# Altium integrated library footprints.IntLib: 27 symbols
Pins are listed as number, name and electrical type; pins without a type are passive.

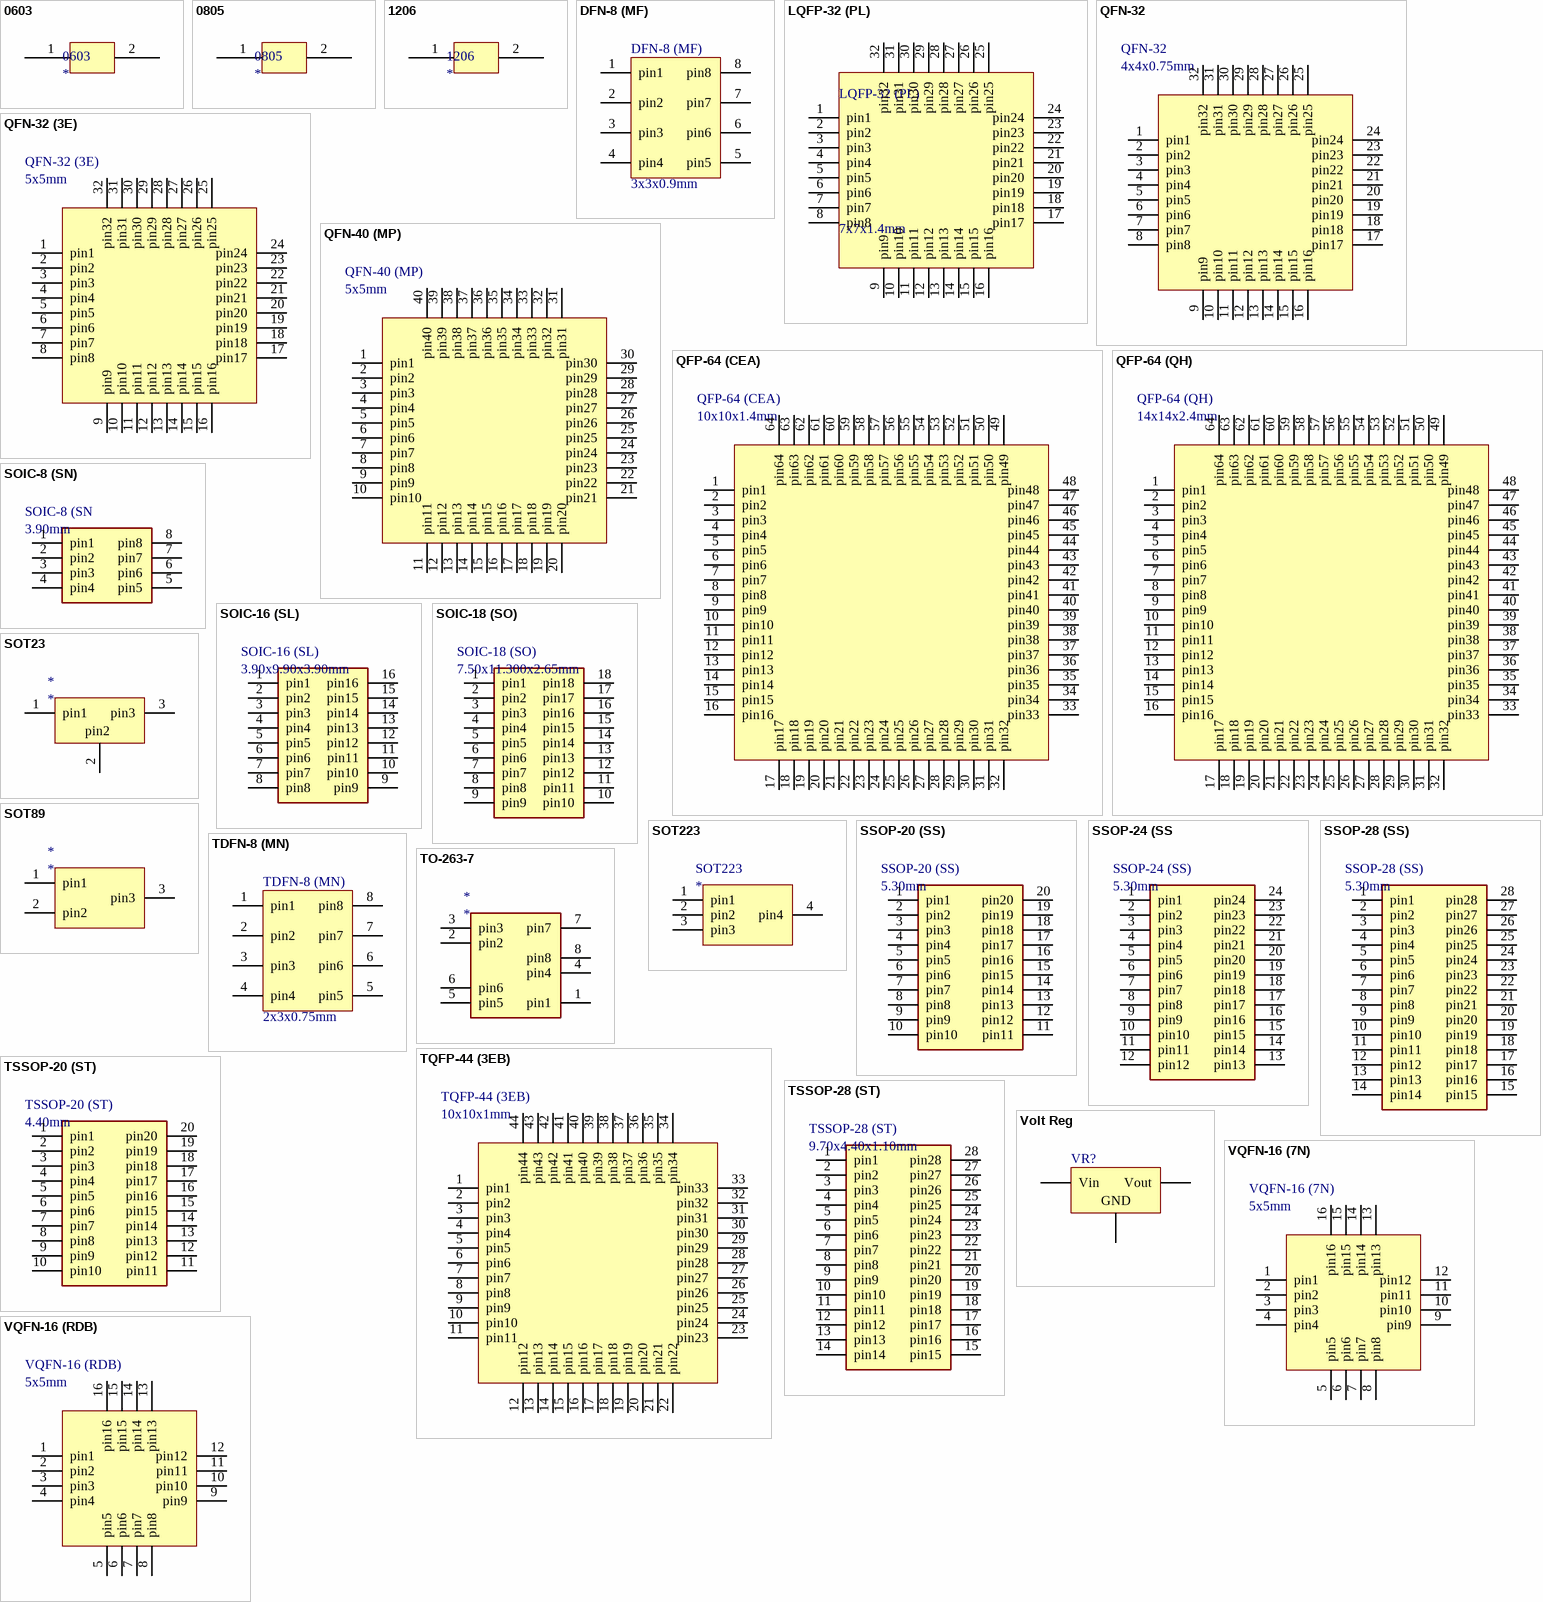
[diagram p0: symbols 0603 to VQFN-16 (RDB)]

## 0603
designator 0603
0603, 1608mm
footprint cap0603 (Chip Capacitor, Body 1.6x0.8mm, IPC High Density)
pins: 1, 2

## 0805
designator 0805
0805 , 2012mm
footprint CAP0805 (Chip Capacitor, Body 2.0x1.3mm, IPC High Density)
footprint RES0805
pins: 1, 2

## 1206
designator 1206
1206, 3216mm
footprint RES1206
footprint C1206 (Chip Capacitor, Body 3.2x1.6mm, IPC High Density)
pins: 1, 2

## DFN-8 (MF)
designator DFN-8 (MF), comment 3x3x0.9mm
8-Lead Plastic Dual Flat No Lead Package
footprint DFN-8 (MF) (8-Lead Plastic Dual Flat No Lead Package 3x3x0.9mm)
pins: 1 pin1, 2 pin2, 3 pin3, 4 pin4, 5 pin5, 6 pin6, 7 pin7, 8 pin8

## LQFP-32 (PL)
designator LQFP-32 (PL), comment 7x7x1.4mm
32-Lead Low Profile Plastic Quad Flatpack
footprint LQFP-32 (PL) (32-Lead Low Profile Plastic Quad Flatpack 7x7x1.4mm)
pins: 1 pin1, 2 pin2, 3 pin3, 4 pin4, 5 pin5, 6 pin6, 7 pin7, 8 pin8, 9 pin9, 10 pin10, 11 pin11, 12 pin12, 13 pin13, 14 pin14, 15 pin15, 16 pin16, 17 pin17, 18 pin18, 19 pin19, 20 pin20, 21 pin21, 22 pin22, 23 pin23, 24 pin24, 25 pin25, 26 pin26, 27 pin27, 28 pin28, 29 pin29, 30 pin30, 31 pin31, 32 pin32

## QFN-32
designator QFN-32, comment 4x4x0.75mm
32 Lead Thin Quad Flat No-Lead Plastic Package
footprint QFN-32 (32 Lead Thin Quad Flat No-Lead Plastic Package)
pins: 1 pin1, 2 pin2, 3 pin3, 4 pin4, 5 pin5, 6 pin6, 7 pin7, 8 pin8, 9 pin9, 10 pin10, 11 pin11, 12 pin12, 13 pin13, 14 pin14, 15 pin15, 16 pin16, 17 pin17, 18 pin18, 19 pin19, 20 pin20, 21 pin21, 22 pin22, 23 pin23, 24 pin24, 25 pin25, 26 pin26, 27 pin27, 28 pin28, 29 pin29, 30 pin30, 31 pin31, 32 pin32

## QFN-32 (3E)
designator QFN-32 (3E), comment 5x5mm
32-Lead Quad Flat, No Lead Package, 0.4mm Terminalas with 3.3x3.3 EP, Punch Singulated, Dimpled Terminals
footprint QFN-32 (3e) (32-Lead Quad Flat No Lead with 7.15x7.15 EP Punch Dimpled)
pins: 1 pin1, 2 pin2, 3 pin3, 4 pin4, 5 pin5, 6 pin6, 7 pin7, 8 pin8, 9 pin9, 10 pin10, 11 pin11, 12 pin12, 13 pin13, 14 pin14, 15 pin15, 16 pin16, 17 pin17, 18 pin18, 19 pin19, 20 pin20, 21 pin21, 22 pin22, 23 pin23, 24 pin24, 25 pin25, 26 pin26, 27 pin27, 28 pin28, 29 pin29, 30 pin30, 31 pin31, 32 pin32

## QFN-40 (MP)
designator QFN-40 (MP), comment 5x5mm
40 Lead Thin Quad Flat, No Lead Plastic Package, 3.5x3.5mm EP
footprint QFN-40 (MP) (40 Lead Thin Quad Flat, No Lead Plastic Package, 3.5x3.5mm EP)
pins: 1 pin1, 2 pin2, 3 pin3, 4 pin4, 5 pin5, 6 pin6, 7 pin7, 8 pin8, 9 pin9, 10 pin10, 11 pin11, 12 pin12, 13 pin13, 14 pin14, 15 pin15, 16 pin16, 17 pin17, 18 pin18, 19 pin19, 20 pin20, 21 pin21, 22 pin22, 23 pin23, 24 pin24, 25 pin25, 26 pin26, 27 pin27, 28 pin28, 29 pin29, 30 pin30, 31 pin31, 32 pin32, 33 pin33, 34 pin34, 35 pin35, 36 pin36, 37 pin37, 38 pin38, 39 pin39, 40 pin40

## QFP-64 (CEA)
designator QFP-64 (CEA), comment 10x10x1.4mm
64-Lead Low Profile Plastic Quad Flat Pack
footprint QFP-64 (CEA) (64-Lead Low Profile Plastic Quad Flat Pack)
pins: 1 pin1, 2 pin2, 3 pin3, 4 pin4, 5 pin5, 6 pin6, 7 pin7, 8 pin8, 9 pin9, 10 pin10, 11 pin11, 12 pin12, 13 pin13, 14 pin14, 15 pin15, 16 pin16, 17 pin17, 18 pin18, 19 pin19, 20 pin20, 21 pin21, 22 pin22, 23 pin23, 24 pin24, 25 pin25, 26 pin26, 27 pin27, 28 pin28, 29 pin29, 30 pin30, 31 pin31, 32 pin32, 33 pin33, 34 pin34, 35 pin35, 36 pin36, 37 pin37, 38 pin38, 39 pin39, 40 pin40, 41 pin41, 42 pin42, 43 pin43, 44 pin44, 45 pin45, 46 pin46, 47 pin47, 48 pin48, 49 pin49, 50 pin50, 51 pin51, 52 pin52, 53 pin53, 54 pin54, 55 pin55, 56 pin56, 57 pin57, 58 pin58, 59 pin59, 60 pin60, 61 pin61, 62 pin62, 63 pin63, 64 pin64

## QFP-64 (QH)
designator QFP-64 (QH), comment 14x14x2.4mm
footprint QFP-64 (QH)
pins: 1 pin1, 2 pin2, 3 pin3, 4 pin4, 5 pin5, 6 pin6, 7 pin7, 8 pin8, 9 pin9, 10 pin10, 11 pin11, 12 pin12, 13 pin13, 14 pin14, 15 pin15, 16 pin16, 17 pin17, 18 pin18, 19 pin19, 20 pin20, 21 pin21, 22 pin22, 23 pin23, 24 pin24, 25 pin25, 26 pin26, 27 pin27, 28 pin28, 29 pin29, 30 pin30, 31 pin31, 32 pin32, 33 pin33, 34 pin34, 35 pin35, 36 pin36, 37 pin37, 38 pin38, 39 pin39, 40 pin40, 41 pin41, 42 pin42, 43 pin43, 44 pin44, 45 pin45, 46 pin46, 47 pin47, 48 pin48, 49 pin49, 50 pin50, 51 pin51, 52 pin52, 53 pin53, 54 pin54, 55 pin55, 56 pin56, 57 pin57, 58 pin58, 59 pin59, 60 pin60, 61 pin61, 62 pin62, 63 pin63, 64 pin64

## SOIC-8 (SN)
designator SOIC-8 (SN, comment 3.90mm
8-Lead
footprint SOIC-8 (SN) (8-Lead 3.90Mm)
pins: 1 pin1, 2 pin2, 3 pin3, 4 pin4, 5 pin5, 6 pin6, 7 pin7, 8 pin8

## SOIC-16 (SL)
designator SOIC-16 (SL), comment 3.90x9.90x3.90mm
16-Lead Plastic Small Outline
footprint SOIC-16 (SL) (16-Lead Plastic Small Outline 3.90mm)
pins: 1 pin1, 2 pin2, 3 pin3, 4 pin4, 5 pin5, 6 pin6, 7 pin7, 8 pin8, 9 pin9, 10 pin10, 11 pin11, 12 pin12, 13 pin13, 14 pin14, 15 pin15, 16 pin16

## SOIC-18 (SO)
designator SOIC-18 (SO), comment 7.50x11.300x2.65mm
18-Lead Plastic Small Outline Wide
footprint SOIC-18 (SO) (18-Lead Plastic Small Outline Wide)
pins: 1 pin1, 2 pin2, 3 pin3, 4 pin4, 5 pin5, 6 pin6, 7 pin7, 8 pin8, 9 pin9, 10 pin10, 11 pin11, 12 pin12, 13 pin13, 14 pin14, 15 pin15, 16 pin16, 17 pin17, 18 pin18

## SOT23
designator *
footprint SOT23 (SOT23, 3-Leads, Body 2.9x1.3mm, Pitch 0.95mm, Lead Span 2.3mm)
pins: 1 pin1, 2 GND, 3 pin3
text: pin2

## SOT89
designator *
footprint SOT89 (SOT89, 3-Leads, Body 4.5x2.4 mm, Pitch 1.5mm, Lead Span 4.1mm, IPC Medium Density)
pins: 1 pin1, 2 pin2, 3 pin3

## SOT223
designator SOT223
4-Leads, Body 6.5x3.5mm, Pitch 2.3mm, Lead Span 7mm, IPC High Density
footprint SOT223 (4-Leads, Body 6.5x3.5mm, Pitch 2.3mm, Lead Span 7mm, IPC High Density)
pins: 1 pin1, 2 pin2, 3 pin3, 4 pin4

## SSOP-20 (SS)
designator SSOP-20 (SS), comment 5.30mm
20-Lead Plastic Shrink Small Outline
footprint SSOP-20 (SS) (20-Lead Plastic Shrink Small Outline 5.30mm)
pins: 1 pin1, 2 pin2, 3 pin3, 4 pin4, 5 pin5, 6 pin6, 7 pin7, 8 pin8, 9 pin9, 10 pin10, 11 pin11, 12 pin12, 13 pin13, 14 pin14, 15 pin15, 16 pin16, 17 pin17, 18 pin18, 19 pin19, 20 pin20

## SSOP-24 (SS
designator SSOP-24 (SS), comment 5.30mm
24-Lead Plastic Shrink Small Outline
footprint SSOP-24 (SS) (24-Lead Plastic Shrink Small Outline)
pins: 1 pin1, 2 pin2, 3 pin3, 4 pin4, 5 pin5, 6 pin6, 7 pin7, 8 pin8, 9 pin9, 10 pin10, 11 pin11, 12 pin12, 13 pin13, 14 pin14, 15 pin15, 16 pin16, 17 pin17, 18 pin18, 19 pin19, 20 pin20, 21 pin21, 22 pin22, 23 pin23, 24 pin24

## SSOP-28 (SS)
designator SSOP-28 (SS), comment 5.30mm
28 Lead 5.30 mm SS Plastic Shrink Small Outline
footprint SSOP-28 (SS) (28 Lead 5.30 mm SS Plastic Shrink Small Outline)
pins: 1 pin1, 2 pin2, 3 pin3, 4 pin4, 5 pin5, 6 pin6, 7 pin7, 8 pin8, 9 pin9, 10 pin10, 11 pin11, 12 pin12, 13 pin13, 14 pin14, 15 pin15, 16 pin16, 17 pin17, 18 pin18, 19 pin19, 20 pin20, 21 pin21, 22 pin22, 23 pin23, 24 pin24, 25 pin25, 26 pin26, 27 pin27, 28 pin28

## TDFN-8 (MN)
designator TDFN-8 (MN), comment 2x3x0.75mm
8 Lead Plastic Dual Flat
footprint TDFN-8 (MN)
pins: 1 pin1, 2 pin2, 3 pin3, 4 pin4, 5 pin5, 6 pin6, 7 pin7, 8 pin8

## TO-263-7
designator *
footprint TO-263-7 (10x9.25mm)
pins: 1 pin1 (power), 2 pin2, 3 pin3, 4 pin4, 5 pin5, 6 pin6, 7 pin7, 8 pin8

## TQFP-44 (3EB)
designator TQFP-44 (3EB), comment 10x10x1mm
44-Lead Plastic Thin Quad Flatpack
footprint TQFP-44 (3EB) (44-Lead Plastic Thin Quad Flatpack)
pins: 1 pin1, 2 pin2, 3 pin3, 4 pin4, 5 pin5, 6 pin6, 7 pin7, 8 pin8, 9 pin9, 10 pin10, 11 pin11, 12 pin12, 13 pin13, 14 pin14, 15 pin15, 16 pin16, 17 pin17, 18 pin18, 19 pin19, 20 pin20, 21 pin21, 22 pin22, 23 pin23, 24 pin24, 25 pin25, 26 pin26, 27 pin27, 28 pin28, 29 pin29, 30 pin30, 31 pin31, 32 pin32, 33 pin33, 34 pin34, 35 pin35, 36 pin36, 37 pin37, 38 pin38, 39 pin39, 40 pin40, 41 pin41, 42 pin42, 43 pin43, 44 pin44

## TSSOP-20 (ST)
designator TSSOP-20 (ST), comment 4.40mm
20-Lead Plastic Thin Shrink Small Outline
footprint TSSOP-20 (ST)
pins: 1 pin1, 2 pin2, 3 pin3, 4 pin4, 5 pin5, 6 pin6, 7 pin7, 8 pin8, 9 pin9, 10 pin10, 11 pin11, 12 pin12, 13 pin13, 14 pin14, 15 pin15, 16 pin16, 17 pin17, 18 pin18, 19 pin19, 20 pin20

## TSSOP-28 (ST)
designator TSSOP-28 (ST), comment 9.70x4.40x1.10mm
28-Lead Thin Shrink Small Outline With 5.5x3.0 mm Exposed Pad
footprint TSSOP-28 (ST)
pins: 1 pin1, 2 pin2, 3 pin3, 4 pin4, 5 pin5, 6 pin6, 7 pin7, 8 pin8, 9 pin9, 10 pin10, 11 pin11, 12 pin12, 13 pin13, 14 pin14, 15 pin15, 16 pin16, 17 pin17, 18 pin18, 19 pin19, 20 pin20, 21 pin21, 22 pin22, 23 pin23, 24 pin24, 25 pin25, 26 pin26, 27 pin27, 28 pin28

## Volt Reg
designator VR?
Voltage Regulator; Published: 24-Mar-1999; LatestRevisionDate: 29-May-2009; LatestRevisionNote: IPC-7351 Footprint Added.; PackageReference: D2PAK; Publisher: Altium Limited; PackageDescription: 3-Pin Transistor Outline Package 2.54 mm Pitch, 15.1 mm Lead Span
footprint D2PAK_N (D2-PAK, 4-Leads, Body 8.8x10.4mm, Pitch 2.54mm, Lead Span 15.1mm, IPC Medium Density)
footprint D2PAK_L (D2-PAK, 4-Leads, Body 8.8x10.4mm, Pitch 2.54mm, Lead Span 15.1mm, IPC High Density)
footprint D2PAK_M (D2-PAK, 4-Leads, Body 8.8x10.4mm, Pitch 2.54mm, Lead Span 15.1mm, IPC Low Density)
pins: 1 Vin, 2 GND, 3 Vout

## VQFN-16 (7N)
designator VQFN-16 (7N), comment 5x5mm
16-Lead Plastic Quad Flat, No Lead Package (7N) - 4x4x1.0 mm Body [VQFN] / Wettable Flanks (Stepped), 0.40 mm Terminal Length
footprint VQFN-16 (7N) (16-Lead Plastic Quad Flat, No Lead Package (7N) - 4x4x1.0 mm Body [VQFN]  Wettable Flanks (Stepped), 0.40 mm Terminal Length)
pins: 1 pin1, 2 pin2, 3 pin3, 4 pin4, 5 pin5, 6 pin6, 7 pin7, 8 pin8, 9 pin9, 10 pin10, 11 pin11, 12 pin12, 13 pin13, 14 pin14, 15 pin15, 16 pin16

## VQFN-16 (RDB)
designator VQFN-16 (RDB), comment 5x5mm
16-Lead Very Thin Plastic Quad Flat, No Lead Package (RDB) - 3x3x0.9 mm Body [VQFN] With 1.7 mm Exposed Pad; Atmel Legacy Package ZPX
footprint VQFN-16 (RDB) (16-Lead Very Thin Plastic Quad Flat, No Lead Package (RDB) - 3x3x0.9 mm Body [VQFN]  With 1.7 mm Exposed Pad; Atmel Legacy Package ZPX)
pins: 1 pin1, 2 pin2, 3 pin3, 4 pin4, 5 pin5, 6 pin6, 7 pin7, 8 pin8, 9 pin9, 10 pin10, 11 pin11, 12 pin12, 13 pin13, 14 pin14, 15 pin15, 16 pin16